# EAGLE library part TC4426A (library SPCoast)
The TC4426A (dual inverter), 4427A (dual buffer) and 4428A (buffer+inverter) are improved buffer/drivers. They will not latch up under any conditions within their power and voltage ratings. They are not subject to damage when up to 5V of noise spiking (of either polarity) occurs on the ground pin. They can accept, without damage or logic upset, up to 500 mA of reverse current (of either polarity) being forced back into their outputs. All terminals are fully protected against up to 4 kV of electrostatic discharge. As MOSFET drivers, the TC4426A/4427A/4428A can easily switch 1000 pF gate capacitances in under 30 ns, and provide low enough impedances in both the ON and OFF states to ensure the MOSFET's intended state will not be affected, even by large transients.
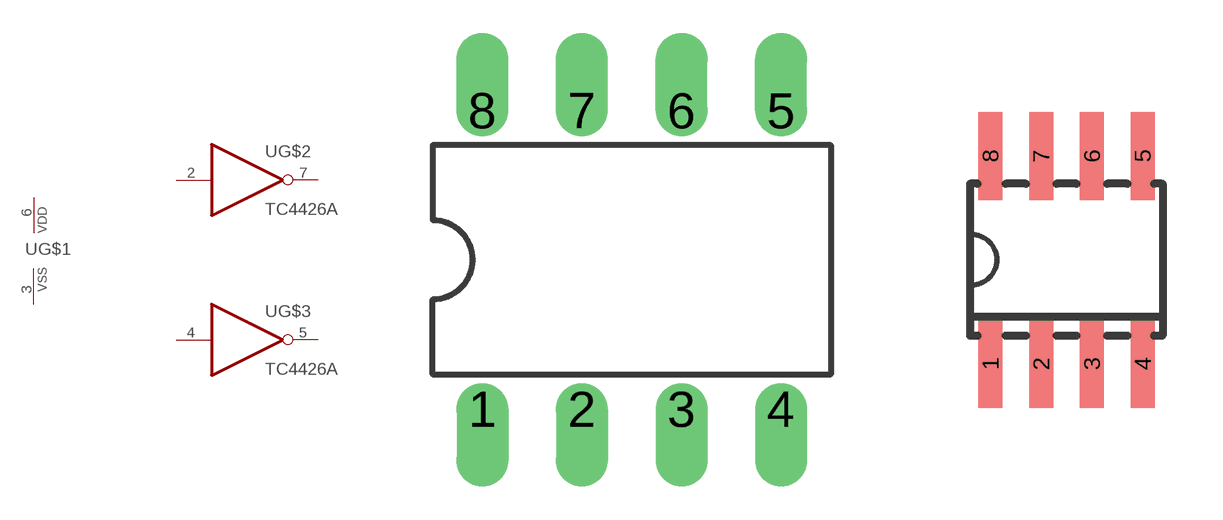
[diagram p18: symbol with the pads of DIL08; footprints DIL08, SO-08]

Designator prefix -; gates G$1=PWRN-1 G$2=INVERT G$3=INVERT

## TC4426APDIP, TC4426ACPAPDIP, TC4426AEPAPDIP, TC4426AMJAPDIP  [DIL08]
2  G$2:I  in
3  G$1:VSS  pwr
4  G$3:I  in
5  G$3:O  out
6  G$1:VDD  pwr
7  G$2:O  out

## TC4426ASOIC, TC4426ACOASOIC, TC4426AEOASOIC  [SO-08]
Pads as for DIL08

## Footprint DIL08 (pad centres in mm)
Dual In Line Package
drill 0.813 offset: 1 -3.81,-3.81; 2 -1.27,-3.81; 3 1.27,-3.81; 4 3.81,-3.81; 5 3.81,3.81; 6 1.27,3.81; 7 -1.27,3.81; 8 -3.81,3.81

## Footprint SO-08 (pad centres in mm)
Small Outline Narrow Plastic Gull Wing 150-mil body, package type SN
smd 0.6 x 2.2: 1 -1.905,-2.6; 2 -0.635,-2.6; 3 0.635,-2.6; 4 1.905,-2.6; 5 1.905,2.6; 6 0.635,2.6; 7 -0.635,2.6; 8 -1.905,2.6